# Altium footprint library analog-devices.PCBLIB: 79 footprints (part 3 of 6)
Each footprint in its own frame and in the unit in brackets; x right, y up, seen from the top. Pads: shape width x height; smd on the part's side, far side on the other; paste and mask are expansions set on the pad; w line width, h text height; cw(c..) or ccw(c..) is an arc to the next point about the centre after c.
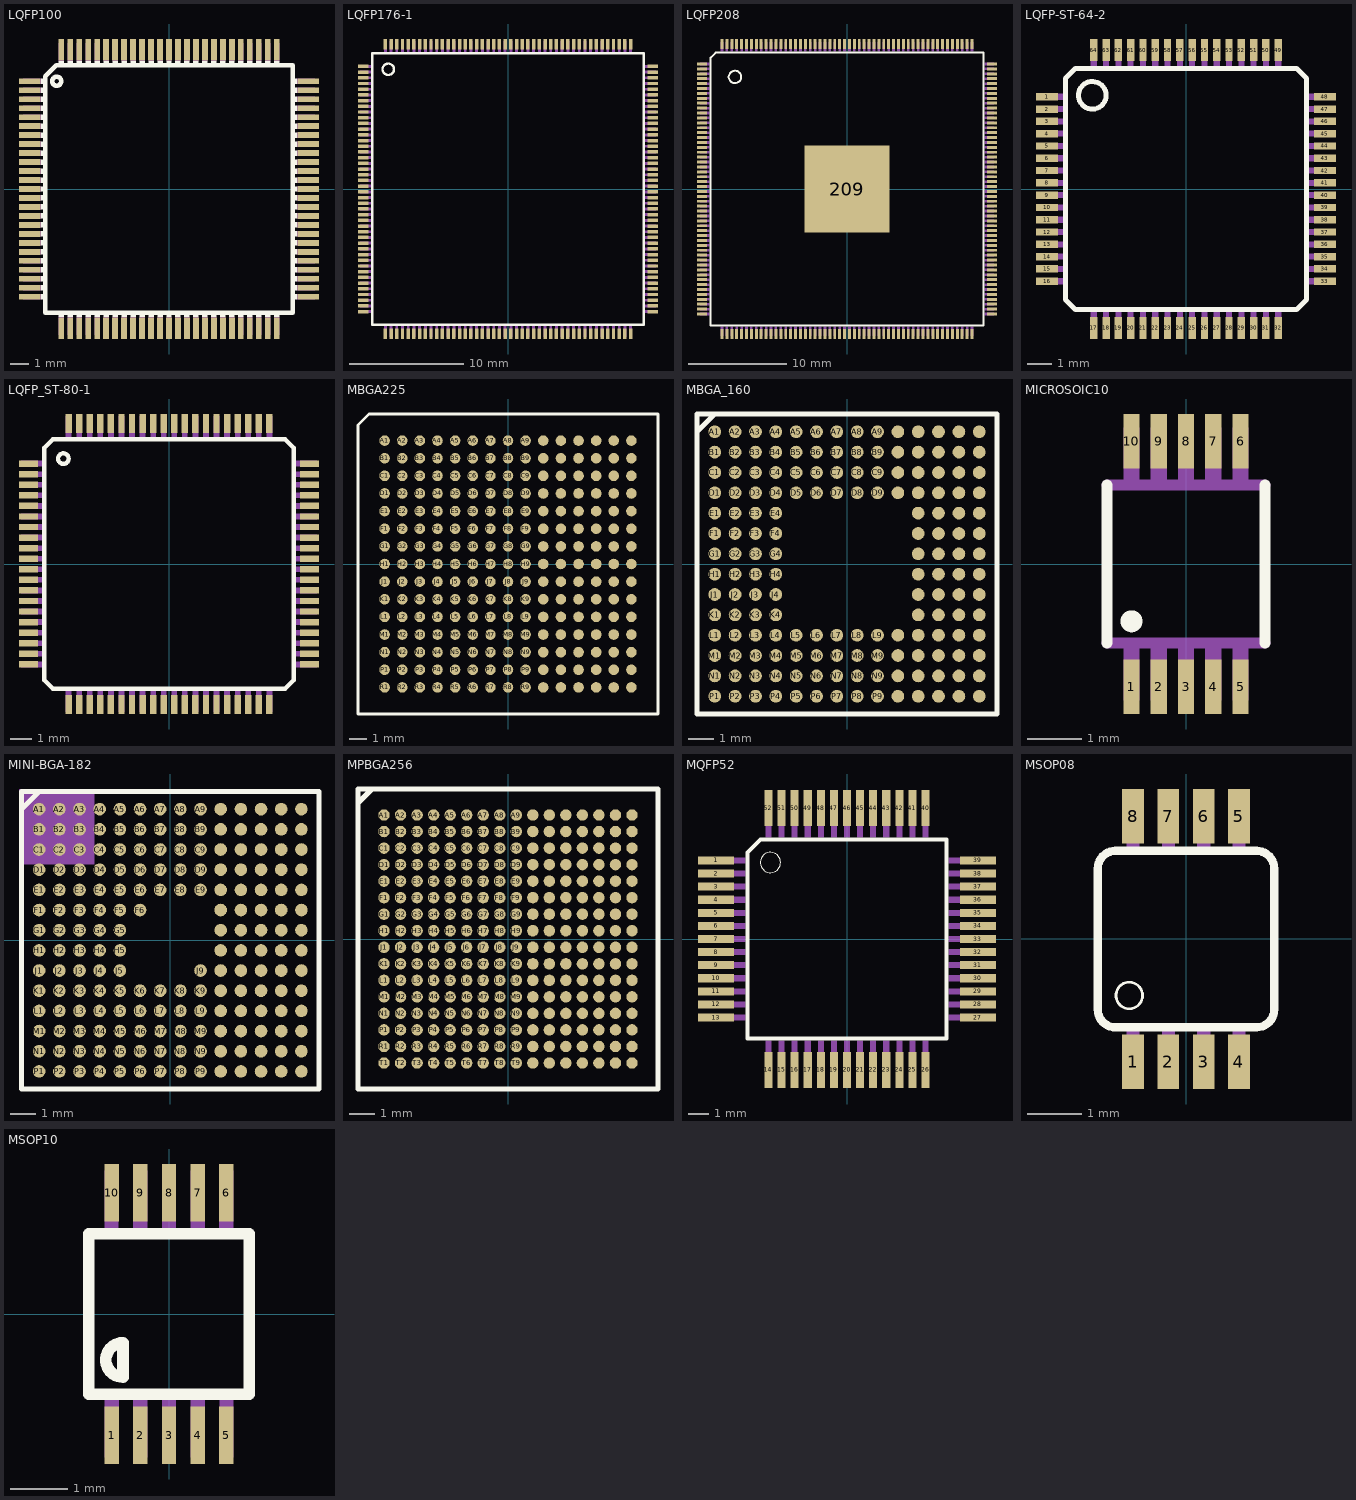
[diagram p2: the footprints below, top view; thin cyan lines are the x and y axes]

## LQFP100 [mm]
pads (100):
  rect 1.2x0.32 smd: 1(-7.75,6) 2(-7.75,5.5) 3(-7.75,5) 4(-7.75,4.5) 5(-7.75,4) 6(-7.75,3.5) 7(-7.75,3) 8(-7.75,2.5) 9(-7.75,2) 10(-7.75,1.5) 11(-7.75,1) 12(-7.75,0.5) 13(-7.75,0) 14(-7.75,-0.5) 15(-7.75,-1) 16(-7.75,-1.5) 17(-7.75,-2) 18(-7.75,-2.5) 19(-7.75,-3) 20(-7.75,-3.5) 21(-7.75,-4) 22(-7.75,-4.5) 23(-7.75,-5) 24(-7.75,-5.5) 25(-7.75,-6) 51(7.75,-6) 52(7.75,-5.5) 53(7.75,-5) 54(7.75,-4.5) 55(7.75,-4) 56(7.75,-3.5) 57(7.75,-3) 58(7.75,-2.5) 59(7.75,-2) 60(7.75,-1.5) 61(7.75,-1) 62(7.75,-0.5) 63(7.75,0) 64(7.75,0.5) 65(7.75,1) 66(7.75,1.5) 67(7.75,2) 68(7.75,2.5) 69(7.75,3) 70(7.75,3.5) 71(7.75,4) 72(7.75,4.5) 73(7.75,5) 74(7.75,5.5) 75(7.75,6)
  rect 0.32x1.2 smd: 26(-6,-7.75) 27(-5.5,-7.75) 28(-5,-7.75) 29(-4.5,-7.75) 30(-4,-7.75) 31(-3.5,-7.75) 32(-3,-7.75) 33(-2.5,-7.75) 34(-2,-7.75) 35(-1.5,-7.75) 36(-1,-7.75) 37(-0.5,-7.75) 38(0,-7.75) 39(0.5,-7.75) 40(1,-7.75) 41(1.5,-7.75) 42(2,-7.75) 43(2.5,-7.75) 44(3,-7.75) 45(3.5,-7.75) 46(4,-7.75) 47(4.5,-7.75) 48(5,-7.75) 49(5.5,-7.75) 50(6,-7.75) 76(6,7.75) 77(5.5,7.75) 78(5,7.75) 79(4.5,7.75) 80(4,7.75) 81(3.5,7.75) 82(3,7.75) 83(2.5,7.75) 84(2,7.75) 85(1.5,7.75) 86(1,7.75) 87(0.5,7.75) 88(0,7.75) 89(-0.5,7.75) 90(-1,7.75) 91(-1.5,7.75) 92(-2,7.75) 93(-2.5,7.75) 94(-3,7.75) 95(-3.5,7.75) 96(-4,7.75) 97(-4.5,7.75) 98(-5,7.75) 99(-5.5,7.75) 100(-6,7.75)
Top Overlay:
  circle w0.254: c-6.25,6 r0.25
  rectangle: -7.115,5.848 -6.861,6.152
  rectangle: -7.115,5.348 -6.861,5.653
  rectangle: -7.115,4.848 -6.861,5.152
  rectangle: -7.115,4.348 -6.861,4.653
  rectangle: -7.115,3.848 -6.861,4.152
  rectangle: -7.115,3.348 -6.861,3.653
  rectangle: -7.115,2.848 -6.861,3.152
  rectangle: -7.115,2.348 -6.861,2.653
  rectangle: -7.115,1.848 -6.861,2.152
  rectangle: -7.115,1.348 -6.861,1.653
  rectangle: -7.115,0.848 -6.861,1.152
  rectangle: -7.115,0.348 -6.861,0.653
  rectangle: -7.115,-0.152 -6.861,0.152
  rectangle: -7.115,-0.653 -6.861,-0.348
  rectangle: -7.115,-1.152 -6.861,-0.848
  rectangle: -7.115,-1.653 -6.861,-1.348
  rectangle: -7.115,-2.152 -6.861,-1.848
  rectangle: -7.115,-2.653 -6.861,-2.348
  rectangle: -7.115,-3.152 -6.861,-2.848
  rectangle: -7.115,-3.653 -6.861,-3.348
  rectangle: -7.115,-4.152 -6.861,-3.848
  rectangle: -7.115,-4.653 -6.861,-4.348
  rectangle: -7.115,-5.152 -6.861,-4.848
  rectangle: -7.115,-5.653 -6.861,-5.348
  rectangle: -7.115,-6.152 -6.861,-5.848
  rectangle: -6.152,-7.115 -5.848,-6.861
  rectangle: -5.653,-7.115 -5.348,-6.861
  rectangle: -5.152,-7.115 -4.848,-6.861
  rectangle: -4.653,-7.115 -4.348,-6.861
  rectangle: -4.152,-7.115 -3.848,-6.861
  rectangle: -3.653,-7.115 -3.348,-6.861
  rectangle: -3.152,-7.115 -2.848,-6.861
  rectangle: -2.653,-7.115 -2.348,-6.861
  rectangle: -2.152,-7.115 -1.848,-6.861
  rectangle: -1.653,-7.115 -1.348,-6.861
  rectangle: -1.152,-7.115 -0.848,-6.861
  rectangle: -0.653,-7.115 -0.348,-6.861
  rectangle: -0.152,-7.115 0.152,-6.861
  rectangle: 0.348,-7.115 0.653,-6.861
  rectangle: 0.848,-7.115 1.152,-6.861
  rectangle: 1.348,-7.115 1.653,-6.861
  rectangle: 1.848,-7.115 2.152,-6.861
  rectangle: 2.348,-7.115 2.653,-6.861
  rectangle: 2.848,-7.115 3.152,-6.861
  rectangle: 3.348,-7.115 3.653,-6.861
  rectangle: 3.848,-7.115 4.152,-6.861
  rectangle: 4.348,-7.115 4.653,-6.861
  rectangle: 4.848,-7.115 5.152,-6.861
  rectangle: 5.348,-7.115 5.653,-6.861
  rectangle: 5.848,-7.115 6.152,-6.861
  rectangle: 6.861,-6.152 7.115,-5.848
  rectangle: 6.861,-5.653 7.115,-5.348
  rectangle: 6.861,-5.152 7.115,-4.848
  rectangle: 6.861,-4.653 7.115,-4.348
  rectangle: 6.861,-4.152 7.115,-3.848
  rectangle: 6.861,-3.653 7.115,-3.348
  rectangle: 6.861,-3.152 7.115,-2.848
  rectangle: 6.861,-2.653 7.115,-2.348
  rectangle: 6.861,-2.152 7.115,-1.848
  rectangle: 6.861,-1.653 7.115,-1.348
  rectangle: 6.861,-1.152 7.115,-0.848
  rectangle: 6.861,-0.653 7.115,-0.348
  rectangle: 6.861,-0.152 7.115,0.152
  rectangle: 6.861,0.348 7.115,0.653
  rectangle: 6.861,0.848 7.115,1.152
  rectangle: 6.861,1.348 7.115,1.653
  rectangle: 6.861,1.848 7.115,2.152
  rectangle: 6.861,2.348 7.115,2.653
  rectangle: 6.861,2.848 7.115,3.152
  rectangle: 6.861,3.348 7.115,3.653
  rectangle: 6.861,3.848 7.115,4.152
  rectangle: 6.861,4.348 7.115,4.653
  rectangle: 6.861,4.848 7.115,5.152
  rectangle: 6.861,5.348 7.115,5.653
  rectangle: 6.861,5.848 7.115,6.152
  rectangle: 5.848,6.861 6.152,7.115
  rectangle: 5.348,6.861 5.653,7.115
  rectangle: 4.848,6.861 5.152,7.115
  rectangle: 4.348,6.861 4.653,7.115
  rectangle: 3.848,6.861 4.152,7.115
  rectangle: 3.348,6.861 3.653,7.115
  rectangle: 2.848,6.861 3.152,7.115
  rectangle: 2.348,6.861 2.653,7.115
  rectangle: 1.848,6.861 2.152,7.115
  rectangle: 1.348,6.861 1.653,7.115
  rectangle: 0.848,6.861 1.152,7.115
  rectangle: 0.348,6.861 0.653,7.115
  rectangle: -0.152,6.861 0.152,7.115
  rectangle: -0.653,6.861 -0.348,7.115
  rectangle: -1.152,6.861 -0.848,7.115
  rectangle: -1.653,6.861 -1.348,7.115
  rectangle: -2.152,6.861 -1.848,7.115
  rectangle: -2.653,6.861 -2.348,7.115
  rectangle: -3.152,6.861 -2.848,7.115
  rectangle: -3.653,6.861 -3.348,7.115
  rectangle: -4.152,6.861 -3.848,7.115
  rectangle: -4.653,6.861 -4.348,7.115
  rectangle: -5.152,6.861 -4.848,7.115
  rectangle: -5.653,6.861 -5.348,7.115
  rectangle: -6.152,6.861 -5.848,7.115
  lines w0.254: -6.883,-6.883 6.883,-6.883 6.883,6.883 -6.274,6.883 -6.883,6.274 -6.883,-6.883
Mechanical 16:
  rectangle: -8.131,5.848 -7.09,6.152
  rectangle: -8.131,5.348 -7.09,5.653
  rectangle: -8.131,4.848 -7.09,5.152
  rectangle: -8.131,4.348 -7.09,4.653
  rectangle: -8.131,3.848 -7.09,4.152
  rectangle: -8.131,3.348 -7.09,3.653
  rectangle: -8.131,2.848 -7.09,3.152
  rectangle: -8.131,2.348 -7.09,2.653
  rectangle: -8.131,1.848 -7.09,2.152
  rectangle: -8.131,1.348 -7.09,1.653
  rectangle: -8.131,0.848 -7.09,1.152
  rectangle: -8.131,0.348 -7.09,0.653
  rectangle: -8.131,-0.152 -7.09,0.152
  rectangle: -8.131,-0.653 -7.09,-0.348
  rectangle: -8.131,-1.152 -7.09,-0.848
  rectangle: -8.131,-1.653 -7.09,-1.348
  rectangle: -8.131,-2.152 -7.09,-1.848
  rectangle: -8.131,-2.653 -7.09,-2.348
  rectangle: -8.131,-3.152 -7.09,-2.848
  rectangle: -8.131,-3.653 -7.09,-3.348
  rectangle: -8.131,-4.152 -7.09,-3.848
  rectangle: -8.131,-4.653 -7.09,-4.348
  rectangle: -8.131,-5.152 -7.09,-4.848
  rectangle: -8.131,-5.653 -7.09,-5.348
  rectangle: -8.131,-6.152 -7.09,-5.848
  rectangle: -6.152,-8.131 -5.848,-7.09
  rectangle: -5.653,-8.131 -5.348,-7.09
  rectangle: -5.152,-8.131 -4.848,-7.09
  rectangle: -4.653,-8.131 -4.348,-7.09
  rectangle: -4.152,-8.131 -3.848,-7.09
  rectangle: -3.653,-8.131 -3.348,-7.09
  rectangle: -3.152,-8.131 -2.848,-7.09
  rectangle: -2.653,-8.131 -2.348,-7.09
  rectangle: -2.152,-8.131 -1.848,-7.09
  rectangle: -1.653,-8.131 -1.348,-7.09
  rectangle: -1.152,-8.131 -0.848,-7.09
  rectangle: -0.653,-8.131 -0.348,-7.09
  rectangle: -0.152,-8.131 0.152,-7.09
  rectangle: 0.348,-8.131 0.653,-7.09
  rectangle: 0.848,-8.131 1.152,-7.09
  rectangle: 1.348,-8.131 1.653,-7.09
  rectangle: 1.848,-8.131 2.152,-7.09
  rectangle: 2.348,-8.131 2.653,-7.09
  rectangle: 2.848,-8.131 3.152,-7.09
  rectangle: 3.348,-8.131 3.653,-7.09
  rectangle: 3.848,-8.131 4.152,-7.09
  rectangle: 4.348,-8.131 4.653,-7.09
  rectangle: 4.848,-8.131 5.152,-7.09
  rectangle: 5.348,-8.131 5.653,-7.09
  rectangle: 5.848,-8.131 6.152,-7.09
  rectangle: 7.09,-6.152 8.131,-5.848
  rectangle: 7.09,-5.653 8.131,-5.348
  rectangle: 7.09,-5.152 8.131,-4.848
  rectangle: 7.09,-4.653 8.131,-4.348
  rectangle: 7.09,-4.152 8.131,-3.848
  rectangle: 7.09,-3.653 8.131,-3.348
  rectangle: 7.09,-3.152 8.131,-2.848
  rectangle: 7.09,-2.653 8.131,-2.348
  rectangle: 7.09,-2.152 8.131,-1.848
  rectangle: 7.09,-1.653 8.131,-1.348
  rectangle: 7.09,-1.152 8.131,-0.848
  rectangle: 7.09,-0.653 8.131,-0.348
  rectangle: 7.09,-0.152 8.131,0.152
  rectangle: 7.09,0.348 8.131,0.653
  rectangle: 7.09,0.848 8.131,1.152
  rectangle: 7.09,1.348 8.131,1.653
  rectangle: 7.09,1.848 8.131,2.152
  rectangle: 7.09,2.348 8.131,2.653
  rectangle: 7.09,2.848 8.131,3.152
  rectangle: 7.09,3.348 8.131,3.653
  rectangle: 7.09,3.848 8.131,4.152
  rectangle: 7.09,4.348 8.131,4.653
  rectangle: 7.09,4.848 8.131,5.152
  rectangle: 7.09,5.348 8.131,5.653
  rectangle: 7.09,5.848 8.131,6.152
  rectangle: 5.848,7.09 6.152,8.131
  rectangle: 5.348,7.09 5.653,8.131
  rectangle: 4.848,7.09 5.152,8.131
  rectangle: 4.348,7.09 4.653,8.131
  rectangle: 3.848,7.09 4.152,8.131
  rectangle: 3.348,7.09 3.653,8.131
  rectangle: 2.848,7.09 3.152,8.131
  rectangle: 2.348,7.09 2.653,8.131
  rectangle: 1.848,7.09 2.152,8.131
  rectangle: 1.348,7.09 1.653,8.131
  rectangle: 0.848,7.09 1.152,8.131
  rectangle: 0.348,7.09 0.653,8.131
  rectangle: -0.152,7.09 0.152,8.131
  rectangle: -0.653,7.09 -0.348,8.131
  rectangle: -1.152,7.09 -0.848,8.131
  rectangle: -1.653,7.09 -1.348,8.131
  rectangle: -2.152,7.09 -1.848,8.131
  rectangle: -2.653,7.09 -2.348,8.131
  rectangle: -3.152,7.09 -2.848,8.131
  rectangle: -3.653,7.09 -3.348,8.131
  rectangle: -4.152,7.09 -3.848,8.131
  rectangle: -4.653,7.09 -4.348,8.131
  rectangle: -5.152,7.09 -4.848,8.131
  rectangle: -5.653,7.09 -5.348,8.131
  rectangle: -6.152,7.09 -5.848,8.131

## LQFP176-1 [mm]
pads (176):
  rect 0.9x0.3 smd: 1(-12.7,10.75) 2(-12.7,10.25) 3(-12.7,9.75) 4(-12.7,9.25) 5(-12.7,8.75) 6(-12.7,8.25) 7(-12.7,7.75) 8(-12.7,7.25) 9(-12.7,6.75) 10(-12.7,6.25) 11(-12.7,5.75) 12(-12.7,5.25) 13(-12.7,4.75) 14(-12.7,4.25) 15(-12.7,3.75) 16(-12.7,3.25) 17(-12.7,2.75) 18(-12.7,2.25) 19(-12.7,1.75) 20(-12.7,1.25) 21(-12.7,0.75) 22(-12.7,0.25) 23(-12.7,-0.25) 24(-12.7,-0.75) 25(-12.7,-1.25) 26(-12.7,-1.75) 27(-12.7,-2.25) 28(-12.7,-2.75) 29(-12.7,-3.25) 30(-12.7,-3.75) 31(-12.7,-4.25) 32(-12.7,-4.75) 33(-12.7,-5.25) 34(-12.7,-5.75) 35(-12.7,-6.25) 36(-12.7,-6.75) 37(-12.7,-7.25) 38(-12.7,-7.75) 39(-12.7,-8.25) 40(-12.7,-8.75) 41(-12.7,-9.25) 42(-12.7,-9.75) 43(-12.7,-10.25) 44(-12.7,-10.75) 89(12.7,-10.75) 90(12.7,-10.25) 91(12.7,-9.75) 92(12.7,-9.25) 93(12.7,-8.75) 94(12.7,-8.25) 95(12.7,-7.75) 96(12.7,-7.25) 97(12.7,-6.75) 98(12.7,-6.25) 99(12.7,-5.75) 100(12.7,-5.25) 101(12.7,-4.75) 102(12.7,-4.25) 103(12.7,-3.75) 104(12.7,-3.25) 105(12.7,-2.75) 106(12.7,-2.25) 107(12.7,-1.75) 108(12.7,-1.25) 109(12.7,-0.75) 110(12.7,-0.25) 111(12.7,0.25) 112(12.7,0.75) 113(12.7,1.25) 114(12.7,1.75) 115(12.7,2.25) 116(12.7,2.75) 117(12.7,3.25) 118(12.7,3.75) 119(12.7,4.25) 120(12.7,4.75) 121(12.7,5.25) 122(12.7,5.75) 123(12.7,6.25) 124(12.7,6.75) 125(12.7,7.25) 126(12.7,7.75) 127(12.7,8.25) 128(12.7,8.75) 129(12.7,9.25) 130(12.7,9.75) 131(12.7,10.25) 132(12.7,10.75)
  rect 0.3x0.9 smd: 45(-10.75,-12.7) 46(-10.25,-12.7) 47(-9.75,-12.7) 48(-9.25,-12.7) 49(-8.75,-12.7) 50(-8.25,-12.7) 51(-7.75,-12.7) 52(-7.25,-12.7) 53(-6.75,-12.7) 54(-6.25,-12.7) 55(-5.75,-12.7) 56(-5.25,-12.7) 57(-4.75,-12.7) 58(-4.25,-12.7) 59(-3.75,-12.7) 60(-3.25,-12.7) 61(-2.75,-12.7) 62(-2.25,-12.7) 63(-1.75,-12.7) 64(-1.25,-12.7) 65(-0.75,-12.7) 66(-0.25,-12.7) 67(0.25,-12.7) 68(0.75,-12.7) 69(1.25,-12.7) 70(1.75,-12.7) 71(2.25,-12.7) 72(2.75,-12.7) 73(3.25,-12.7) 74(3.75,-12.7) 75(4.25,-12.7) 76(4.75,-12.7) 77(5.25,-12.7) 78(5.75,-12.7) 79(6.25,-12.7) 80(6.75,-12.7) 81(7.25,-12.7) 82(7.75,-12.7) 83(8.25,-12.7) 84(8.75,-12.7) 85(9.25,-12.7) 86(9.75,-12.7) 87(10.25,-12.7) 88(10.75,-12.7) 133(10.75,12.7) 134(10.25,12.7) 135(9.75,12.7) 136(9.25,12.7) 137(8.75,12.7) 138(8.25,12.7) 139(7.75,12.7) 140(7.25,12.7) 141(6.75,12.7) 142(6.25,12.7) 143(5.75,12.7) 144(5.25,12.7) 145(4.75,12.7) 146(4.25,12.7) 147(3.75,12.7) 148(3.25,12.7) 149(2.75,12.7) 150(2.25,12.7) 151(1.75,12.7) 152(1.25,12.7) 153(0.75,12.7) 154(0.25,12.7) 155(-0.25,12.7) 156(-0.75,12.7) 157(-1.25,12.7) 158(-1.75,12.7) 159(-2.25,12.7) 160(-2.75,12.7) 161(-3.25,12.7) 162(-3.75,12.7) 163(-4.25,12.7) 164(-4.75,12.7) 165(-5.25,12.7) 166(-5.75,12.7) 167(-6.25,12.7) 168(-6.75,12.7) 169(-7.25,12.7) 170(-7.75,12.7) 171(-8.25,12.7) 172(-8.75,12.7) 173(-9.25,12.7) 174(-9.75,12.7) 175(-10.25,12.7) 176(-10.75,12.7)
Top Overlay:
  circle w0.203: c-10.5,10.5 r0.5
  lines w0.203: -11.9,-11.9 11.9,-11.9 11.9,11.9 -11.9,11.9 -11.9,-11.9
Top Paste:
  drawing of 176 lines, arcs and shapes, not listed
Top Solder:
  drawing of 176 lines, arcs and shapes, not listed
Mechanical 16:
  drawing of 176 lines, arcs and shapes, not listed

## LQFP208 [mm]
pads (209):
  rect 1x0.3 smd: 1(-14.8,12.75) 2(-14.8,12.25) 3(-14.8,11.75) 4(-14.8,11.25) 5(-14.8,10.75) 6(-14.8,10.25) 7(-14.8,9.75) 8(-14.8,9.25) 9(-14.8,8.75) 10(-14.8,8.25) 11(-14.8,7.75) 12(-14.8,7.25) 13(-14.8,6.75) 14(-14.8,6.25) 15(-14.8,5.75) 16(-14.8,5.25) 17(-14.8,4.75) 18(-14.8,4.25) 19(-14.8,3.75) 20(-14.8,3.25) 21(-14.8,2.75) 22(-14.8,2.25) 23(-14.8,1.75) 24(-14.8,1.25) 25(-14.8,0.75) 26(-14.8,0.25) 27(-14.8,-0.25) 28(-14.8,-0.75) 29(-14.8,-1.25) 30(-14.8,-1.75) 31(-14.8,-2.25) 32(-14.8,-2.75) 33(-14.8,-3.25) 34(-14.8,-3.75) 35(-14.8,-4.25) 36(-14.8,-4.75) 37(-14.8,-5.25) 38(-14.8,-5.75) 39(-14.8,-6.25) 40(-14.8,-6.75) 41(-14.8,-7.25) 42(-14.8,-7.75) 43(-14.8,-8.25) 44(-14.8,-8.75) 45(-14.8,-9.25) 46(-14.8,-9.75) 47(-14.8,-10.25) 48(-14.8,-10.75) 49(-14.8,-11.25) 50(-14.8,-11.75) 51(-14.8,-12.25) 52(-14.8,-12.75) 105(14.8,-12.75) 106(14.8,-12.25) 107(14.8,-11.75) 108(14.8,-11.25) 109(14.8,-10.75) 110(14.8,-10.25) 111(14.8,-9.75) 112(14.8,-9.25) 113(14.8,-8.75) 114(14.8,-8.25) 115(14.8,-7.75) 116(14.8,-7.25) 117(14.8,-6.75) 118(14.8,-6.25) 119(14.8,-5.75) 120(14.8,-5.25) 121(14.8,-4.75) 122(14.8,-4.25) 123(14.8,-3.75) 124(14.8,-3.25) 125(14.8,-2.75) 126(14.8,-2.25) 127(14.8,-1.75) 128(14.8,-1.25) 129(14.8,-0.75) 130(14.8,-0.25) 131(14.8,0.25) 132(14.8,0.75) 133(14.8,1.25) 134(14.8,1.75) 135(14.8,2.25) 136(14.8,2.75) 137(14.8,3.25) 138(14.8,3.75) 139(14.8,4.25) 140(14.8,4.75) 141(14.8,5.25) 142(14.8,5.75) 143(14.8,6.25) 144(14.8,6.75) 145(14.8,7.25) 146(14.8,7.75) 147(14.8,8.25) 148(14.8,8.75) 149(14.8,9.25) 150(14.8,9.75) 151(14.8,10.25) 152(14.8,10.75) 153(14.8,11.25) 154(14.8,11.75) 155(14.8,12.25) 156(14.8,12.75)
  rect 0.3x1 smd: 53(-12.75,-14.8) 54(-12.25,-14.8) 55(-11.75,-14.8) 56(-11.25,-14.8) 57(-10.75,-14.8) 58(-10.25,-14.8) 59(-9.75,-14.8) 60(-9.25,-14.8) 61(-8.75,-14.8) 62(-8.25,-14.8) 63(-7.75,-14.8) 64(-7.25,-14.8) 65(-6.75,-14.8) 66(-6.25,-14.8) 67(-5.75,-14.8) 68(-5.25,-14.8) 69(-4.75,-14.8) 70(-4.25,-14.8) 71(-3.75,-14.8) 72(-3.25,-14.8) 73(-2.75,-14.8) 74(-2.25,-14.8) 75(-1.75,-14.8) 76(-1.25,-14.8) 77(-0.75,-14.8) 78(-0.25,-14.8) 79(0.25,-14.8) 80(0.75,-14.8) 81(1.25,-14.8) 82(1.75,-14.8) 83(2.25,-14.8) 84(2.75,-14.8) 85(3.25,-14.8) 86(3.75,-14.8) 87(4.25,-14.8) 88(4.75,-14.8) 89(5.25,-14.8) 90(5.75,-14.8) 91(6.25,-14.8) 92(6.75,-14.8) 93(7.25,-14.8) 94(7.75,-14.8) 95(8.25,-14.8) 96(8.75,-14.8) 97(9.25,-14.8) 98(9.75,-14.8) 99(10.25,-14.8) 100(10.75,-14.8) 101(11.25,-14.8) 102(11.75,-14.8) 103(12.25,-14.8) 104(12.75,-14.8) 157(12.75,14.8) 158(12.25,14.8) 159(11.75,14.8) 160(11.25,14.8) 161(10.75,14.8) 162(10.25,14.8) 163(9.75,14.8) 164(9.25,14.8) 165(8.75,14.8) 166(8.25,14.8) 167(7.75,14.8) 168(7.25,14.8) 169(6.75,14.8) 170(6.25,14.8) 171(5.75,14.8) 172(5.25,14.8) 173(4.75,14.8) 174(4.25,14.8) 175(3.75,14.8) 176(3.25,14.8) 177(2.75,14.8) 178(2.25,14.8) 179(1.75,14.8) 180(1.25,14.8) 181(0.75,14.8) 182(0.25,14.8) 183(-0.25,14.8) 184(-0.75,14.8) 185(-1.25,14.8) 186(-1.75,14.8) 187(-2.25,14.8) 188(-2.75,14.8) 189(-3.25,14.8) 190(-3.75,14.8) 191(-4.25,14.8) 192(-4.75,14.8) 193(-5.25,14.8) 194(-5.75,14.8) 195(-6.25,14.8) 196(-6.75,14.8) 197(-7.25,14.8) 198(-7.75,14.8) 199(-8.25,14.8) 200(-8.75,14.8) 201(-9.25,14.8) 202(-9.75,14.8) 203(-10.25,14.8) 204(-10.75,14.8) 205(-11.25,14.8) 206(-11.75,14.8) 207(-12.25,14.8) 208(-12.75,14.8)
  rect 8.712x8.89 smd: 209(0,0)
Top Overlay:
  circle w0.203: c-11.43,11.43 r0.635
  lines w0.203: -13.898,-13.898 13.898,-13.898 13.898,13.898 -13.4,13.898 -13.898,13.4 -13.898,-13.898
Mechanical 16:
  drawing of 208 lines, arcs and shapes, not listed

## LQFP-ST-64-2 [mm]
pads (64):
  rect 0.9x0.3 smd: 1(-5.65,3.75) 2(-5.65,3.25) 3(-5.65,2.75) 4(-5.65,2.25) 5(-5.65,1.75) 6(-5.65,1.25) 7(-5.65,0.75) 8(-5.65,0.25) 9(-5.65,-0.25) 10(-5.65,-0.75) 11(-5.65,-1.25) 12(-5.65,-1.75) 13(-5.65,-2.25) 14(-5.65,-2.75) 15(-5.65,-3.25) 16(-5.65,-3.75) 33(5.65,-3.75) 34(5.65,-3.25) 35(5.65,-2.75) 36(5.65,-2.25) 37(5.65,-1.75) 38(5.65,-1.25) 39(5.65,-0.75) 40(5.65,-0.25) 41(5.65,0.25) 42(5.65,0.75) 43(5.65,1.25) 44(5.65,1.75) 45(5.65,2.25) 46(5.65,2.75) 47(5.65,3.25) 48(5.65,3.75)
  rect 0.3x0.9 smd: 17(-3.75,-5.65) 18(-3.25,-5.65) 19(-2.75,-5.65) 20(-2.25,-5.65) 21(-1.75,-5.65) 22(-1.25,-5.65) 23(-0.75,-5.65) 24(-0.25,-5.65) 25(0.25,-5.65) 26(0.75,-5.65) 27(1.25,-5.65) 28(1.75,-5.65) 29(2.25,-5.65) 30(2.75,-5.65) 31(3.25,-5.65) 32(3.75,-5.65) 49(3.75,5.65) 50(3.25,5.65) 51(2.75,5.65) 52(2.25,5.65) 53(1.75,5.65) 54(1.25,5.65) 55(0.75,5.65) 56(0.25,5.65) 57(-0.25,5.65) 58(-0.75,5.65) 59(-1.25,5.65) 60(-1.75,5.65) 61(-2.25,5.65) 62(-2.75,5.65) 63(-3.25,5.65) 64(-3.75,5.65)
Top Overlay:
  circle w0.203: c-3.81,3.81 r0.563
  lines w0.203: -4.9,-4.5 -4.5,-4.9 4.5,-4.9 4.9,-4.5 4.9,4.5 4.5,4.9 -4.5,4.9 -4.9,4.5 -4.9,-4.5
Mechanical 16:
  rectangle: -6,3.625 -5,3.875
  rectangle: -6,3.125 -5,3.375
  rectangle: -6,2.625 -5,2.875
  rectangle: -6,2.125 -5,2.375
  rectangle: -6,1.625 -5,1.875
  rectangle: -6,1.125 -5,1.375
  rectangle: -6,0.625 -5,0.875
  rectangle: -6,0.125 -5,0.375
  rectangle: -6,-0.375 -5,-0.125
  rectangle: -6,-0.875 -5,-0.625
  rectangle: -6,-1.375 -5,-1.125
  rectangle: -6,-1.875 -5,-1.625
  rectangle: -6,-2.375 -5,-2.125
  rectangle: -6,-2.875 -5,-2.625
  rectangle: -6,-3.375 -5,-3.125
  rectangle: -6,-3.875 -5,-3.625
  region: -3.625,-6 -3.625,-5 -3.875,-5 -3.875,-6
  region: -3.125,-6 -3.125,-5 -3.375,-5 -3.375,-6
  region: -2.625,-6 -2.625,-5 -2.875,-5 -2.875,-6
  region: -2.125,-6 -2.125,-5 -2.375,-5 -2.375,-6
  region: -1.625,-6 -1.625,-5 -1.875,-5 -1.875,-6
  region: -1.125,-6 -1.125,-5 -1.375,-5 -1.375,-6
  region: -0.625,-6 -0.625,-5 -0.875,-5 -0.875,-6
  region: -0.125,-6 -0.125,-5 -0.375,-5 -0.375,-6
  region: 0.375,-6 0.375,-5 0.125,-5 0.125,-6
  region: 0.875,-6 0.875,-5 0.625,-5 0.625,-6
  region: 1.375,-6 1.375,-5 1.125,-5 1.125,-6
  region: 1.875,-6 1.875,-5 1.625,-5 1.625,-6
  region: 2.375,-6 2.375,-5 2.125,-5 2.125,-6
  region: 2.875,-6 2.875,-5 2.625,-5 2.625,-6
  region: 3.375,-6 3.375,-5 3.125,-5 3.125,-6
  region: 3.875,-6 3.875,-5 3.625,-5 3.625,-6
  region: 6,-3.625 5,-3.625 5,-3.875 6,-3.875
  region: 6,-3.125 5,-3.125 5,-3.375 6,-3.375
  region: 6,-2.625 5,-2.625 5,-2.875 6,-2.875
  region: 6,-2.125 5,-2.125 5,-2.375 6,-2.375
  region: 6,-1.625 5,-1.625 5,-1.875 6,-1.875
  region: 6,-1.125 5,-1.125 5,-1.375 6,-1.375
  region: 6,-0.625 5,-0.625 5,-0.875 6,-0.875
  region: 6,-0.125 5,-0.125 5,-0.375 6,-0.375
  region: 6,0.375 5,0.375 5,0.125 6,0.125
  region: 6,0.875 5,0.875 5,0.625 6,0.625
  region: 6,1.375 5,1.375 5,1.125 6,1.125
  region: 6,1.875 5,1.875 5,1.625 6,1.625
  region: 6,2.375 5,2.375 5,2.125 6,2.125
  region: 6,2.875 5,2.875 5,2.625 6,2.625
  region: 6,3.375 5,3.375 5,3.125 6,3.125
  region: 6,3.875 5,3.875 5,3.625 6,3.625
  region: 3.625,6 3.625,5 3.875,5 3.875,6
  region: 3.125,6 3.125,5 3.375,5 3.375,6
  region: 2.625,6 2.625,5 2.875,5 2.875,6
  region: 2.125,6 2.125,5 2.375,5 2.375,6
  region: 1.625,6 1.625,5 1.875,5 1.875,6
  region: 1.125,6 1.125,5 1.375,5 1.375,6
  region: 0.625,6 0.625,5 0.875,5 0.875,6
  region: 0.125,6 0.125,5 0.375,5 0.375,6
  region: -0.375,6 -0.375,5 -0.125,5 -0.125,6
  region: -0.875,6 -0.875,5 -0.625,5 -0.625,6
  region: -1.375,6 -1.375,5 -1.125,5 -1.125,6
  region: -1.875,6 -1.875,5 -1.625,5 -1.625,6
  region: -2.375,6 -2.375,5 -2.125,5 -2.125,6
  region: -2.875,6 -2.875,5 -2.625,5 -2.625,6
  region: -3.375,6 -3.375,5 -3.125,5 -3.125,6
  region: -3.875,6 -3.875,5 -3.625,5 -3.625,6

## LQFP_ST-80-1 [mm]
pads (80):
  rect 0.9x0.3 smd: 1(-6.65,4.75) 2(-6.65,4.25) 3(-6.65,3.75) 4(-6.65,3.25) 5(-6.65,2.75) 6(-6.65,2.25) 7(-6.65,1.75) 8(-6.65,1.25) 9(-6.65,0.75) 10(-6.65,0.25) 11(-6.65,-0.25) 12(-6.65,-0.75) 13(-6.65,-1.25) 14(-6.65,-1.75) 15(-6.65,-2.25) 16(-6.65,-2.75) 17(-6.65,-3.25) 18(-6.65,-3.75) 19(-6.65,-4.25) 20(-6.65,-4.75) 41(6.65,-4.75) 42(6.65,-4.25) 43(6.65,-3.75) 44(6.65,-3.25) 45(6.65,-2.75) 46(6.65,-2.25) 47(6.65,-1.75) 48(6.65,-1.25) 49(6.65,-0.75) 50(6.65,-0.25) 51(6.65,0.25) 52(6.65,0.75) 53(6.65,1.25) 54(6.65,1.75) 55(6.65,2.25) 56(6.65,2.75) 57(6.65,3.25) 58(6.65,3.75) 59(6.65,4.25) 60(6.65,4.75)
  rect 0.3x0.9 smd: 21(-4.75,-6.65) 22(-4.25,-6.65) 23(-3.75,-6.65) 24(-3.25,-6.65) 25(-2.75,-6.65) 26(-2.25,-6.65) 27(-1.75,-6.65) 28(-1.25,-6.65) 29(-0.75,-6.65) 30(-0.25,-6.65) 31(0.25,-6.65) 32(0.75,-6.65) 33(1.25,-6.65) 34(1.75,-6.65) 35(2.25,-6.65) 36(2.75,-6.65) 37(3.25,-6.65) 38(3.75,-6.65) 39(4.25,-6.65) 40(4.75,-6.65) 61(4.75,6.65) 62(4.25,6.65) 63(3.75,6.65) 64(3.25,6.65) 65(2.75,6.65) 66(2.25,6.65) 67(1.75,6.65) 68(1.25,6.65) 69(0.75,6.65) 70(0.25,6.65) 71(-0.25,6.65) 72(-0.75,6.65) 73(-1.25,6.65) 74(-1.75,6.65) 75(-2.25,6.65) 76(-2.75,6.65) 77(-3.25,6.65) 78(-3.75,6.65) 79(-4.25,6.65) 80(-4.75,6.65)
Top Overlay:
  circle w0.203: c-5,4.988 r0.25
  lines w0.203: -5.9,-5.5 -5.5,-5.9 5.5,-5.9 5.9,-5.5 5.9,5.5 5.5,5.9 -5.5,5.9 -5.9,5.5 -5.9,-5.5
Mechanical 16:
  rectangle: -7,4.612 -6,4.887
  rectangle: -7,4.113 -6,4.388
  rectangle: -7,3.612 -6,3.887
  rectangle: -7,3.113 -6,3.388
  rectangle: -7,2.612 -6,2.887
  rectangle: -7,2.113 -6,2.388
  rectangle: -7,1.612 -6,1.887
  rectangle: -7,1.113 -6,1.388
  rectangle: -7,0.612 -6,0.887
  rectangle: -7,0.113 -6,0.388
  rectangle: -7,-0.388 -6,-0.113
  rectangle: -7,-0.887 -6,-0.612
  rectangle: -7,-1.388 -6,-1.113
  rectangle: -7,-1.887 -6,-1.612
  rectangle: -7,-2.388 -6,-2.113
  rectangle: -7,-2.887 -6,-2.612
  rectangle: -7,-3.388 -6,-3.113
  rectangle: -7,-3.887 -6,-3.612
  rectangle: -7,-4.388 -6,-4.113
  rectangle: -7,-4.887 -6,-4.612
  region: -4.612,-7 -4.612,-6 -4.887,-6 -4.887,-7
  region: -4.113,-7 -4.113,-6 -4.388,-6 -4.388,-7
  region: -3.612,-7 -3.612,-6 -3.887,-6 -3.887,-7
  region: -3.113,-7 -3.113,-6 -3.388,-6 -3.388,-7
  region: -2.612,-7 -2.612,-6 -2.887,-6 -2.887,-7
  region: -2.113,-7 -2.113,-6 -2.388,-6 -2.388,-7
  region: -1.612,-7 -1.612,-6 -1.887,-6 -1.887,-7
  region: -1.113,-7 -1.113,-6 -1.388,-6 -1.388,-7
  region: -0.612,-7 -0.612,-6 -0.887,-6 -0.887,-7
  region: -0.113,-7 -0.113,-6 -0.388,-6 -0.388,-7
  region: 0.388,-7 0.388,-6 0.113,-6 0.113,-7
  region: 0.887,-7 0.887,-6 0.612,-6 0.612,-7
  region: 1.388,-7 1.388,-6 1.113,-6 1.113,-7
  region: 1.887,-7 1.887,-6 1.612,-6 1.612,-7
  region: 2.388,-7 2.388,-6 2.113,-6 2.113,-7
  region: 2.887,-7 2.887,-6 2.612,-6 2.612,-7
  region: 3.388,-7 3.388,-6 3.113,-6 3.113,-7
  region: 3.887,-7 3.887,-6 3.612,-6 3.612,-7
  region: 4.388,-7 4.388,-6 4.113,-6 4.113,-7
  region: 4.887,-7 4.887,-6 4.612,-6 4.612,-7
  region: 7,-4.612 6,-4.612 6,-4.887 7,-4.887
  region: 7,-4.113 6,-4.113 6,-4.388 7,-4.388
  region: 7,-3.612 6,-3.612 6,-3.887 7,-3.887
  region: 7,-3.113 6,-3.113 6,-3.388 7,-3.388
  region: 7,-2.612 6,-2.612 6,-2.887 7,-2.887
  region: 7,-2.113 6,-2.113 6,-2.388 7,-2.388
  region: 7,-1.612 6,-1.612 6,-1.887 7,-1.887
  region: 7,-1.113 6,-1.113 6,-1.388 7,-1.388
  region: 7,-0.612 6,-0.612 6,-0.887 7,-0.887
  region: 7,-0.113 6,-0.113 6,-0.388 7,-0.388
  region: 7,0.388 6,0.388 6,0.113 7,0.113
  region: 7,0.887 6,0.887 6,0.612 7,0.612
  region: 7,1.388 6,1.388 6,1.113 7,1.113
  region: 7,1.887 6,1.887 6,1.612 7,1.612
  region: 7,2.388 6,2.388 6,2.113 7,2.113
  region: 7,2.887 6,2.887 6,2.612 7,2.612
  region: 7,3.388 6,3.388 6,3.113 7,3.113
  region: 7,3.887 6,3.887 6,3.612 7,3.612
  region: 7,4.388 6,4.388 6,4.113 7,4.113
  region: 7,4.887 6,4.887 6,4.612 7,4.612
  region: 4.612,7 4.612,6 4.887,6 4.887,7
  region: 4.113,7 4.113,6 4.388,6 4.388,7
  region: 3.612,7 3.612,6 3.887,6 3.887,7
  region: 3.113,7 3.113,6 3.388,6 3.388,7
  region: 2.612,7 2.612,6 2.887,6 2.887,7
  region: 2.113,7 2.113,6 2.388,6 2.388,7
  region: 1.612,7 1.612,6 1.887,6 1.887,7
  region: 1.113,7 1.113,6 1.388,6 1.388,7
  region: 0.612,7 0.612,6 0.887,6 0.887,7
  region: 0.113,7 0.113,6 0.388,6 0.388,7
  region: -0.388,7 -0.388,6 -0.113,6 -0.113,7
  region: -0.887,7 -0.887,6 -0.612,6 -0.612,7
  region: -1.388,7 -1.388,6 -1.113,6 -1.113,7
  region: -1.887,7 -1.887,6 -1.612,6 -1.612,7
  region: -2.388,7 -2.388,6 -2.113,6 -2.113,7
  region: -2.887,7 -2.887,6 -2.612,6 -2.612,7
  region: -3.388,7 -3.388,6 -3.113,6 -3.113,7
  region: -3.887,7 -3.887,6 -3.612,6 -3.612,7
  region: -4.388,7 -4.388,6 -4.113,6 -4.113,7
  region: -4.887,7 -4.887,6 -4.612,6 -4.612,7

## MBGA225 [mm]
pads (225):
  rrect100% 0.6x0.6 smd: A1(-7,7) A2(-6,7) A3(-5,7) A4(-4,7) A5(-3,7) A6(-2,7) A7(-1,7) A8(0,7) A9(1,7) A10(2,7) A11(3,7) A12(4,7) A13(5,7) A14(6,7) A15(7,7) B1(-7,6) B2(-6,6) B3(-5,6) B4(-4,6) B5(-3,6) B6(-2,6) B7(-1,6) B8(0,6) B9(1,6) B10(2,6) B11(3,6) B12(4,6) B13(5,6) B14(6,6) B15(7,6) C1(-7,5) C2(-6,5) C3(-5,5) C4(-4,5) C5(-3,5) C6(-2,5) C7(-1,5) C8(0,5) C9(1,5) C10(2,5) C11(3,5) C12(4,5) C13(5,5) C14(6,5) C15(7,5) D1(-7,4) D2(-6,4) D3(-5,4) D4(-4,4) D5(-3,4) D6(-2,4) D7(-1,4) D8(0,4) D9(1,4) D10(2,4) D11(3,4) D12(4,4) D13(5,4) D14(6,4) D15(7,4) E1(-7,3) E2(-6,3) E3(-5,3) E4(-4,3) E5(-3,3) E6(-2,3) E7(-1,3) E8(0,3) E9(1,3) E10(2,3) E11(3,3) E12(4,3) E13(5,3) E14(6,3) E15(7,3) F1(-7,2) F2(-6,2) F3(-5,2) F4(-4,2) F5(-3,2) F6(-2,2) F7(-1,2) F8(0,2) F9(1,2) F10(2,2) F11(3,2) F12(4,2) F13(5,2) F14(6,2) F15(7,2) G1(-7,1) G2(-6,1) G3(-5,1) G4(-4,1) G5(-3,1) G6(-2,1) G7(-1,1) G8(0,1) G9(1,1) G10(2,1) G11(3,1) G12(4,1) G13(5,1) G14(6,1) G15(7,1) H1(-7,0) H2(-6,0) H3(-5,0) H4(-4,0) H5(-3,0) H6(-2,0) H7(-1,0) H8(0,0) H9(1,0) H10(2,0) H11(3,0) H12(4,0) H13(5,0) H14(6,0) H15(7,0) J1(-7,-1) J2(-6,-1) J3(-5,-1) J4(-4,-1) J5(-3,-1) J6(-2,-1) J7(-1,-1) J8(0,-1) J9(1,-1) J10(2,-1) J11(3,-1) J12(4,-1) J13(5,-1) J14(6,-1) J15(7,-1) K1(-7,-2) K2(-6,-2) K3(-5,-2) K4(-4,-2) K5(-3,-2) K6(-2,-2) K7(-1,-2) K8(0,-2) K9(1,-2) K10(2,-2) K11(3,-2) K12(4,-2) K13(5,-2) K14(6,-2) K15(7,-2) L1(-7,-3) L2(-6,-3) L3(-5,-3) L4(-4,-3) L5(-3,-3) L6(-2,-3) L7(-1,-3) L8(0,-3) L9(1,-3) L10(2,-3) L11(3,-3) L12(4,-3) L13(5,-3) L14(6,-3) L15(7,-3) M1(-7,-4) M2(-6,-4) M3(-5,-4) M4(-4,-4) M5(-3,-4) M6(-2,-4) M7(-1,-4) M8(0,-4) M9(1,-4) M10(2,-4) M11(3,-4) M12(4,-4) M13(5,-4) M14(6,-4) M15(7,-4) N1(-7,-5) N2(-6,-5) N3(-5,-5) N4(-4,-5) N5(-3,-5) N6(-2,-5) N7(-1,-5) N8(0,-5) N9(1,-5) N10(2,-5) N11(3,-5) N12(4,-5) N13(5,-5) N14(6,-5) N15(7,-5) P1(-7,-6) P2(-6,-6) P3(-5,-6) P4(-4,-6) P5(-3,-6) P6(-2,-6) P7(-1,-6) P8(0,-6) P9(1,-6) P10(2,-6) P11(3,-6) P12(4,-6) P13(5,-6) P14(6,-6) P15(7,-6) R1(-7,-7) R2(-6,-7) R3(-5,-7) R4(-4,-7) R5(-3,-7) R6(-2,-7) R7(-1,-7) R8(0,-7) R9(1,-7) R10(2,-7) R11(3,-7) R12(4,-7) R13(5,-7) R14(6,-7) R15(7,-7)
Top Overlay:
  lines w0.152: -8.509,-8.509 8.509,-8.509 8.509,8.509 -7.874,8.509 -8.509,7.874 -8.509,-8.509

## MBGA_160 [mm]
pads (160):
  rrect100% 0.5x0.5 smd: A1(-5.2,5.2) A2(-4.4,5.2) A3(-3.6,5.2) A4(-2.8,5.2) A5(-2,5.2) A6(-1.2,5.2) A7(-0.4,5.2) A8(0.4,5.2) A9(1.2,5.2) A10(2,5.2) A11(2.8,5.2) A12(3.6,5.2) A13(4.4,5.2) A14(5.2,5.2) B1(-5.2,4.4) B2(-4.4,4.4) B3(-3.6,4.4) B4(-2.8,4.4) B5(-2,4.4) B6(-1.2,4.4) B7(-0.4,4.4) B8(0.4,4.4) B9(1.2,4.4) B10(2,4.4) B11(2.8,4.4) B12(3.6,4.4) B13(4.4,4.4) B14(5.2,4.4) C1(-5.2,3.6) C2(-4.4,3.6) C3(-3.6,3.6) C4(-2.8,3.6) C5(-2,3.6) C6(-1.2,3.6) C7(-0.4,3.6) C8(0.4,3.6) C9(1.2,3.6) C10(2,3.6) C11(2.8,3.6) C12(3.6,3.6) C13(4.4,3.6) C14(5.2,3.6) D1(-5.2,2.8) D2(-4.4,2.8) D3(-3.6,2.8) D4(-2.8,2.8) D5(-2,2.8) D6(-1.2,2.8) D7(-0.4,2.8) D8(0.4,2.8) D9(1.2,2.8) D10(2,2.8) D11(2.8,2.8) D12(3.6,2.8) D13(4.4,2.8) D14(5.2,2.8) E1(-5.2,2) E2(-4.4,2) E3(-3.6,2) E4(-2.8,2) E11(2.8,2) E12(3.6,2) E13(4.4,2) E14(5.2,2) F1(-5.2,1.2) F2(-4.4,1.2) F3(-3.6,1.2) F4(-2.8,1.2) F11(2.8,1.2) F12(3.6,1.2) F13(4.4,1.2) F14(5.2,1.2) G1(-5.2,0.4) G2(-4.4,0.4) G3(-3.6,0.4) G4(-2.8,0.4) G11(2.8,0.4) G12(3.6,0.4) G13(4.4,0.4) G14(5.2,0.4) H1(-5.2,-0.4) H2(-4.4,-0.4) H3(-3.6,-0.4) H4(-2.8,-0.4) H11(2.8,-0.4) H12(3.6,-0.4) H13(4.4,-0.4) H14(5.2,-0.4) J1(-5.2,-1.2) J2(-4.4,-1.2) J3(-3.6,-1.2) J4(-2.8,-1.2) J11(2.8,-1.2) J12(3.6,-1.2) J13(4.4,-1.2) J14(5.2,-1.2) K1(-5.2,-2) K2(-4.4,-2) K3(-3.6,-2) K4(-2.8,-2) K11(2.8,-2) K12(3.6,-2) K13(4.4,-2) K14(5.2,-2) L1(-5.2,-2.8) L2(-4.4,-2.8) L3(-3.6,-2.8) L4(-2.8,-2.8) L5(-2,-2.8) L6(-1.2,-2.8) L7(-0.4,-2.8) L8(0.4,-2.8) L9(1.2,-2.8) L10(2,-2.8) L11(2.8,-2.8) L12(3.6,-2.8) L13(4.4,-2.8) L14(5.2,-2.8) M1(-5.2,-3.6) M2(-4.4,-3.6) M3(-3.6,-3.6) M4(-2.8,-3.6) M5(-2,-3.6) M6(-1.2,-3.6) M7(-0.4,-3.6) M8(0.4,-3.6) M9(1.2,-3.6) M10(2,-3.6) M11(2.8,-3.6) M12(3.6,-3.6) M13(4.4,-3.6) M14(5.2,-3.6) N1(-5.2,-4.4) N2(-4.4,-4.4) N3(-3.6,-4.4) N4(-2.8,-4.4) N5(-2,-4.4) N6(-1.2,-4.4) N7(-0.4,-4.4) N8(0.4,-4.4) N9(1.2,-4.4) N10(2,-4.4) N11(2.8,-4.4) N12(3.6,-4.4) N13(4.4,-4.4) N14(5.2,-4.4) P1(-5.2,-5.2) P2(-4.4,-5.2) P3(-3.6,-5.2) P4(-2.8,-5.2) P5(-2,-5.2) P6(-1.2,-5.2) P7(-0.4,-5.2) P8(0.4,-5.2) P9(1.2,-5.2) P10(2,-5.2) P11(2.8,-5.2) P12(3.6,-5.2) P13(4.4,-5.2) P14(5.2,-5.2)
Top Overlay:
  lines w0.203: -5.898,5.2 -5.898,5.898 -5.2,5.898 ; -5.898,5.2 -5.898,-5.898 5.898,-5.898 5.898,5.898 -5.2,5.898 ; -5.898,5.2 -5.2,5.898
Top Solder:
  drawing of 160 lines, arcs and shapes, not listed

## MICROSOIC10 [mm]
pads (10):
  rect 0.3x1 smd: 1(-1,-2.25) 2(-0.5,-2.25) 3(0,-2.25) 4(0.5,-2.25) 5(1,-2.25) 6(1,2.25) 7(0.5,2.25) 8(0,2.25) 9(-0.5,2.25) 10(-1,2.25)
Top Overlay:
  circle w0.203: c-1,-1.05 r0.1
  lines w0.203: -1.45,-1.45 -1.45,1.45 ; 1.45,-1.45 1.45,1.45
Mechanical 16:
  rectangle: -1.15,-2.5 -0.85,-1.5
  rectangle: -0.65,-2.5 -0.35,-1.5
  rectangle: -0.15,-2.5 0.15,-1.5
  rectangle: 0.35,-2.5 0.65,-1.5
  rectangle: 0.85,-2.5 1.15,-1.5
  rectangle: 0.85,1.5 1.15,2.5
  rectangle: 0.35,1.5 0.65,2.5
  rectangle: -0.15,1.5 0.15,2.5
  rectangle: -0.65,1.5 -0.35,2.5
  rectangle: -1.15,1.5 -0.85,2.5
  lines w0.203: -1.45,-1.45 1.45,-1.45 ; -1.45,1.45 1.45,1.45

## MINI-BGA-182 [mm]
pads (182):
  rrect100% 0.5x0.5 smd: A1(-5.2,5.2) A2(-4.4,5.2) A3(-3.6,5.2) A4(-2.8,5.2) A5(-2,5.2) A6(-1.2,5.2) A7(-0.4,5.2) A8(0.4,5.2) A9(1.2,5.2) A10(2,5.2) A11(2.8,5.2) A12(3.6,5.2) A13(4.4,5.2) A14(5.2,5.2) B1(-5.2,4.4) B2(-4.4,4.4) B3(-3.6,4.4) B4(-2.8,4.4) B5(-2,4.4) B6(-1.2,4.4) B7(-0.4,4.4) B8(0.4,4.4) B9(1.2,4.4) B10(2,4.4) B11(2.8,4.4) B12(3.6,4.4) B13(4.4,4.4) B14(5.2,4.4) C1(-5.2,3.6) C2(-4.4,3.6) C3(-3.6,3.6) C4(-2.8,3.6) C5(-2,3.6) C6(-1.2,3.6) C7(-0.4,3.6) C8(0.4,3.6) C9(1.2,3.6) C10(2,3.6) C11(2.8,3.6) C12(3.6,3.6) C13(4.4,3.6) C14(5.2,3.6) D1(-5.2,2.8) D2(-4.4,2.8) D3(-3.6,2.8) D4(-2.8,2.8) D5(-2,2.8) D6(-1.2,2.8) D7(-0.4,2.8) D8(0.4,2.8) D9(1.2,2.8) D10(2,2.8) D11(2.8,2.8) D12(3.6,2.8) D13(4.4,2.8) D14(5.2,2.8) E1(-5.2,2) E2(-4.4,2) E3(-3.6,2) E4(-2.8,2) E5(-2,2) E6(-1.2,2) E7(-0.4,2) E8(0.4,2) E9(1.2,2) E10(2,2) E11(2.8,2) E12(3.6,2) E13(4.4,2) E14(5.2,2) F1(-5.2,1.2) F2(-4.4,1.2) F3(-3.6,1.2) F4(-2.8,1.2) F5(-2,1.2) F6(-1.2,1.2) F10(2,1.2) F11(2.8,1.2) F12(3.6,1.2) F13(4.4,1.2) F14(5.2,1.2) G1(-5.2,0.4) G2(-4.4,0.4) G3(-3.6,0.4) G4(-2.8,0.4) G5(-2,0.4) G10(2,0.4) G11(2.8,0.4) G12(3.6,0.4) G13(4.4,0.4) G14(5.2,0.4) H1(-5.2,-0.4) H2(-4.4,-0.4) H3(-3.6,-0.4) H4(-2.8,-0.4) H5(-2,-0.4) H10(2,-0.4) H11(2.8,-0.4) H12(3.6,-0.4) H13(4.4,-0.4) H14(5.2,-0.4) J1(-5.2,-1.2) J2(-4.4,-1.2) J3(-3.6,-1.2) J4(-2.8,-1.2) J5(-2,-1.2) J9(1.2,-1.2) J10(2,-1.2) J11(2.8,-1.2) J12(3.6,-1.2) J13(4.4,-1.2) J14(5.2,-1.2) K1(-5.2,-2) K2(-4.4,-2) K3(-3.6,-2) K4(-2.8,-2) K5(-2,-2) K6(-1.2,-2) K7(-0.4,-2) K8(0.4,-2) K9(1.2,-2) K10(2,-2) K11(2.8,-2) K12(3.6,-2) K13(4.4,-2) K14(5.2,-2) L1(-5.2,-2.8) L2(-4.4,-2.8) L3(-3.6,-2.8) L4(-2.8,-2.8) L5(-2,-2.8) L6(-1.2,-2.8) L7(-0.4,-2.8) L8(0.4,-2.8) L9(1.2,-2.8) L10(2,-2.8) L11(2.8,-2.8) L12(3.6,-2.8) L13(4.4,-2.8) L14(5.2,-2.8) M1(-5.2,-3.6) M2(-4.4,-3.6) M3(-3.6,-3.6) M4(-2.8,-3.6) M5(-2,-3.6) M6(-1.2,-3.6) M7(-0.4,-3.6) M8(0.4,-3.6) M9(1.2,-3.6) M10(2,-3.6) M11(2.8,-3.6) M12(3.6,-3.6) M13(4.4,-3.6) M14(5.2,-3.6) N1(-5.2,-4.4) N2(-4.4,-4.4) N3(-3.6,-4.4) N4(-2.8,-4.4) N5(-2,-4.4) N6(-1.2,-4.4) N7(-0.4,-4.4) N8(0.4,-4.4) N9(1.2,-4.4) N10(2,-4.4) N11(2.8,-4.4) N12(3.6,-4.4) N13(4.4,-4.4) N14(5.2,-4.4) P1(-5.2,-5.2) P2(-4.4,-5.2) P3(-3.6,-5.2) P4(-2.8,-5.2) P5(-2,-5.2) P6(-1.2,-5.2) P7(-0.4,-5.2) P8(0.4,-5.2) P9(1.2,-5.2) P10(2,-5.2) P11(2.8,-5.2) P12(3.6,-5.2) P13(4.4,-5.2) P14(5.2,-5.2)
Top Overlay:
  lines w0.203: -5.898,5.2 -5.898,5.898 -5.2,5.898 ; -5.898,5.2 -5.898,-5.898 5.898,-5.898 5.898,5.898 -5.2,5.898 ; -5.898,5.2 -5.2,5.898
Top Solder:
  drawing of 182 lines, arcs and shapes, not listed
Mechanical 16:
  rectangle: -6,3 -3,6

## MPBGA256 [mm]
pads (256):
  rrect100% 0.45x0.45 smd: A1(-4.875,4.875) A2(-4.225,4.875) A3(-3.575,4.875) A4(-2.925,4.875) A5(-2.275,4.875) A6(-1.625,4.875) A7(-0.975,4.875) A8(-0.325,4.875) A9(0.325,4.875) A10(0.975,4.875) A11(1.625,4.875) A12(2.275,4.875) A13(2.925,4.875) A14(3.575,4.875) A15(4.225,4.875) A16(4.875,4.875) B1(-4.875,4.225) B2(-4.225,4.225) B3(-3.575,4.225) B4(-2.925,4.225) B5(-2.275,4.225) B6(-1.625,4.225) B7(-0.975,4.225) B8(-0.325,4.225) B9(0.325,4.225) B10(0.975,4.225) B11(1.625,4.225) B12(2.275,4.225) B13(2.925,4.225) B14(3.575,4.225) B15(4.225,4.225) B16(4.875,4.225) C1(-4.875,3.575) C2(-4.225,3.575) C3(-3.575,3.575) C4(-2.925,3.575) C5(-2.275,3.575) C6(-1.625,3.575) C7(-0.975,3.575) C8(-0.325,3.575) C9(0.325,3.575) C10(0.975,3.575) C11(1.625,3.575) C12(2.275,3.575) C13(2.925,3.575) C14(3.575,3.575) C15(4.225,3.575) C16(4.875,3.575) D1(-4.875,2.925) D2(-4.225,2.925) D3(-3.575,2.925) D4(-2.925,2.925) D5(-2.275,2.925) D6(-1.625,2.925) D7(-0.975,2.925) D8(-0.325,2.925) D9(0.325,2.925) D10(0.975,2.925) D11(1.625,2.925) D12(2.275,2.925) D13(2.925,2.925) D14(3.575,2.925) D15(4.225,2.925) D16(4.875,2.925) E1(-4.875,2.275) E2(-4.225,2.275) E3(-3.575,2.275) E4(-2.925,2.275) E5(-2.275,2.275) E6(-1.625,2.275) E7(-0.975,2.275) E8(-0.325,2.275) E9(0.325,2.275) E10(0.975,2.275) E11(1.625,2.275) E12(2.275,2.275) E13(2.925,2.275) E14(3.575,2.275) E15(4.225,2.275) E16(4.875,2.275) F1(-4.875,1.625) F2(-4.225,1.625) F3(-3.575,1.625) F4(-2.925,1.625) F5(-2.275,1.625) F6(-1.625,1.625) F7(-0.975,1.625) F8(-0.325,1.625) F9(0.325,1.625) F10(0.975,1.625) F11(1.625,1.625) F12(2.275,1.625) F13(2.925,1.625) F14(3.575,1.625) F15(4.225,1.625) F16(4.875,1.625) G1(-4.875,0.975) G2(-4.225,0.975) G3(-3.575,0.975) G4(-2.925,0.975) G5(-2.275,0.975) G6(-1.625,0.975) G7(-0.975,0.975) G8(-0.325,0.975) G9(0.325,0.975) G10(0.975,0.975) G11(1.625,0.975) G12(2.275,0.975) G13(2.925,0.975) G14(3.575,0.975) G15(4.225,0.975) G16(4.875,0.975) H1(-4.875,0.325) H2(-4.225,0.325) H3(-3.575,0.325) H4(-2.925,0.325) H5(-2.275,0.325) H6(-1.625,0.325) H7(-0.975,0.325) H8(-0.325,0.325) H9(0.325,0.325) H10(0.975,0.325) H11(1.625,0.325) H12(2.275,0.325) H13(2.925,0.325) H14(3.575,0.325) H15(4.225,0.325) H16(4.875,0.325) J1(-4.875,-0.325) J2(-4.225,-0.325) J3(-3.575,-0.325) J4(-2.925,-0.325) J5(-2.275,-0.325) J6(-1.625,-0.325) J7(-0.975,-0.325) J8(-0.325,-0.325) J9(0.325,-0.325) J10(0.975,-0.325) J11(1.625,-0.325) J12(2.275,-0.325) J13(2.925,-0.325) J14(3.575,-0.325) J15(4.225,-0.325) J16(4.875,-0.325) K1(-4.875,-0.975) K2(-4.225,-0.975) K3(-3.575,-0.975) K4(-2.925,-0.975) K5(-2.275,-0.975) K6(-1.625,-0.975) K7(-0.975,-0.975) K8(-0.325,-0.975) K9(0.325,-0.975) K10(0.975,-0.975) K11(1.625,-0.975) K12(2.275,-0.975) K13(2.925,-0.975) K14(3.575,-0.975) K15(4.225,-0.975) K16(4.875,-0.975) L1(-4.875,-1.625) L2(-4.225,-1.625) L3(-3.575,-1.625) L4(-2.925,-1.625) L5(-2.275,-1.625) L6(-1.625,-1.625) L7(-0.975,-1.625) L8(-0.325,-1.625) L9(0.325,-1.625) L10(0.975,-1.625) L11(1.625,-1.625) L12(2.275,-1.625) L13(2.925,-1.625) L14(3.575,-1.625) L15(4.225,-1.625) L16(4.875,-1.625) M1(-4.875,-2.275) M2(-4.225,-2.275) M3(-3.575,-2.275) M4(-2.925,-2.275) M5(-2.275,-2.275) M6(-1.625,-2.275) M7(-0.975,-2.275) M8(-0.325,-2.275) M9(0.325,-2.275) M10(0.975,-2.275) M11(1.625,-2.275) M12(2.275,-2.275) M13(2.925,-2.275) M14(3.575,-2.275) M15(4.225,-2.275) M16(4.875,-2.275) N1(-4.875,-2.925) N2(-4.225,-2.925) N3(-3.575,-2.925) N4(-2.925,-2.925) N5(-2.275,-2.925) N6(-1.625,-2.925) N7(-0.975,-2.925) N8(-0.325,-2.925) N9(0.325,-2.925) N10(0.975,-2.925) N11(1.625,-2.925) N12(2.275,-2.925) N13(2.925,-2.925) N14(3.575,-2.925) N15(4.225,-2.925) N16(4.875,-2.925) P1(-4.875,-3.575) P2(-4.225,-3.575) P3(-3.575,-3.575) P4(-2.925,-3.575) P5(-2.275,-3.575) P6(-1.625,-3.575) P7(-0.975,-3.575) P8(-0.325,-3.575) P9(0.325,-3.575) P10(0.975,-3.575) P11(1.625,-3.575) P12(2.275,-3.575) P13(2.925,-3.575) P14(3.575,-3.575) P15(4.225,-3.575) P16(4.875,-3.575) R1(-4.875,-4.225) R2(-4.225,-4.225) R3(-3.575,-4.225) R4(-2.925,-4.225) R5(-2.275,-4.225) R6(-1.625,-4.225) R7(-0.975,-4.225) R8(-0.325,-4.225) R9(0.325,-4.225) R10(0.975,-4.225) R11(1.625,-4.225) R12(2.275,-4.225) R13(2.925,-4.225) R14(3.575,-4.225) R15(4.225,-4.225) R16(4.875,-4.225) T1(-4.875,-4.875) T2(-4.225,-4.875) T3(-3.575,-4.875) T4(-2.925,-4.875) T5(-2.275,-4.875) T6(-1.625,-4.875) T7(-0.975,-4.875) T8(-0.325,-4.875) T9(0.325,-4.875) T10(0.975,-4.875) T11(1.625,-4.875) T12(2.275,-4.875) T13(2.925,-4.875) T14(3.575,-4.875) T15(4.225,-4.875) T16(4.875,-4.875)
Top Overlay:
  lines w0.203: -5.898,5.35 -5.898,5.898 -5.35,5.898 ; -5.898,5.35 -5.898,-5.898 5.898,-5.898 5.898,5.898 -5.35,5.898 ; -5.898,5.35 -5.35,5.898
Top Solder:
  drawing of 256 lines, arcs and shapes, not listed

## MQFP52 [mm]
pads (52):
  rect 1.8x0.4 smd: 1(-6.5,3.9) 2(-6.5,3.25) 3(-6.5,2.6) 4(-6.5,1.95) 5(-6.5,1.3) 6(-6.5,0.65) 7(-6.5,0) 8(-6.5,-0.65) 9(-6.5,-1.3) 10(-6.5,-1.95) 11(-6.5,-2.6) 12(-6.5,-3.25) 13(-6.5,-3.9) 27(6.5,-3.9) 28(6.5,-3.25) 29(6.5,-2.6) 30(6.5,-1.95) 31(6.5,-1.3) 32(6.5,-0.65) 33(6.5,0) 34(6.5,0.65) 35(6.5,1.3) 36(6.5,1.95) 37(6.5,2.6) 38(6.5,3.25) 39(6.5,3.9)
  rect 0.4x1.8 smd: 14(-3.9,-6.5) 15(-3.25,-6.5) 16(-2.6,-6.5) 17(-1.95,-6.5) 18(-1.3,-6.5) 19(-0.65,-6.5) 20(0,-6.5) 21(0.65,-6.5) 22(1.3,-6.5) 23(1.95,-6.5) 24(2.6,-6.5) 25(3.25,-6.5) 26(3.9,-6.5) 40(3.9,6.5) 41(3.25,6.5) 42(2.6,6.5) 43(1.95,6.5) 44(1.3,6.5) 45(0.65,6.5) 46(0,6.5) 47(-0.65,6.5) 48(-1.3,6.5) 49(-1.95,6.5) 50(-2.6,6.5) 51(-3.25,6.5) 52(-3.9,6.5)
Top Overlay:
  circle w0: c-3.8,3.8 r0.502
  lines w0.203: -4.95,-4.95 4.95,-4.95 4.95,4.95 -4.3,4.95 -4.95,4.3 -4.95,-4.95
Top Paste:
  rectangle: -7.35,3.725 -5.65,4.075
  rectangle: -7.35,3.075 -5.65,3.425
  rectangle: -7.35,2.425 -5.65,2.775
  rectangle: -7.35,1.775 -5.65,2.125
  rectangle: -7.35,1.125 -5.65,1.475
  rectangle: -7.35,0.475 -5.65,0.825
  rectangle: -7.35,-0.175 -5.65,0.175
  rectangle: -7.35,-0.825 -5.65,-0.475
  rectangle: -7.35,-1.475 -5.65,-1.125
  rectangle: -7.35,-2.125 -5.65,-1.775
  rectangle: -7.35,-2.775 -5.65,-2.425
  rectangle: -7.35,-3.425 -5.65,-3.075
  rectangle: -7.35,-4.075 -5.65,-3.725
  region: -3.725,-7.35 -3.725,-5.65 -4.075,-5.65 -4.075,-7.35
  region: -3.075,-7.35 -3.075,-5.65 -3.425,-5.65 -3.425,-7.35
  region: -2.425,-7.35 -2.425,-5.65 -2.775,-5.65 -2.775,-7.35
  region: -1.775,-7.35 -1.775,-5.65 -2.125,-5.65 -2.125,-7.35
  region: -1.125,-7.35 -1.125,-5.65 -1.475,-5.65 -1.475,-7.35
  region: -0.475,-7.35 -0.475,-5.65 -0.825,-5.65 -0.825,-7.35
  region: 0.175,-7.35 0.175,-5.65 -0.175,-5.65 -0.175,-7.35
  region: 0.825,-7.35 0.825,-5.65 0.475,-5.65 0.475,-7.35
  region: 1.475,-7.35 1.475,-5.65 1.125,-5.65 1.125,-7.35
  region: 2.125,-7.35 2.125,-5.65 1.775,-5.65 1.775,-7.35
  region: 2.775,-7.35 2.775,-5.65 2.425,-5.65 2.425,-7.35
  region: 3.425,-7.35 3.425,-5.65 3.075,-5.65 3.075,-7.35
  region: 4.075,-7.35 4.075,-5.65 3.725,-5.65 3.725,-7.35
  region: 7.35,-3.725 5.65,-3.725 5.65,-4.075 7.35,-4.075
  region: 7.35,-3.075 5.65,-3.075 5.65,-3.425 7.35,-3.425
  region: 7.35,-2.425 5.65,-2.425 5.65,-2.775 7.35,-2.775
  region: 7.35,-1.775 5.65,-1.775 5.65,-2.125 7.35,-2.125
  region: 7.35,-1.125 5.65,-1.125 5.65,-1.475 7.35,-1.475
  region: 7.35,-0.475 5.65,-0.475 5.65,-0.825 7.35,-0.825
  region: 7.35,0.175 5.65,0.175 5.65,-0.175 7.35,-0.175
  region: 7.35,0.825 5.65,0.825 5.65,0.475 7.35,0.475
  region: 7.35,1.475 5.65,1.475 5.65,1.125 7.35,1.125
  region: 7.35,2.125 5.65,2.125 5.65,1.775 7.35,1.775
  region: 7.35,2.775 5.65,2.775 5.65,2.425 7.35,2.425
  region: 7.35,3.425 5.65,3.425 5.65,3.075 7.35,3.075
  region: 7.35,4.075 5.65,4.075 5.65,3.725 7.35,3.725
  region: 3.725,7.35 3.725,5.65 4.075,5.65 4.075,7.35
  region: 3.075,7.35 3.075,5.65 3.425,5.65 3.425,7.35
  region: 2.425,7.35 2.425,5.65 2.775,5.65 2.775,7.35
  region: 1.775,7.35 1.775,5.65 2.125,5.65 2.125,7.35
  region: 1.125,7.35 1.125,5.65 1.475,5.65 1.475,7.35
  region: 0.475,7.35 0.475,5.65 0.825,5.65 0.825,7.35
  region: -0.175,7.35 -0.175,5.65 0.175,5.65 0.175,7.35
  region: -0.825,7.35 -0.825,5.65 -0.475,5.65 -0.475,7.35
  region: -1.475,7.35 -1.475,5.65 -1.125,5.65 -1.125,7.35
  region: -2.125,7.35 -2.125,5.65 -1.775,5.65 -1.775,7.35
  region: -2.775,7.35 -2.775,5.65 -2.425,5.65 -2.425,7.35
  region: -3.425,7.35 -3.425,5.65 -3.075,5.65 -3.075,7.35
  region: -4.075,7.35 -4.075,5.65 -3.725,5.65 -3.725,7.35
Top Solder:
  rectangle: -7.45,3.65 -5.55,4.15
  rectangle: -7.45,3 -5.55,3.5
  rectangle: -7.45,2.35 -5.55,2.85
  rectangle: -7.45,1.7 -5.55,2.2
  rectangle: -7.45,1.05 -5.55,1.55
  rectangle: -7.45,0.4 -5.55,0.9
  rectangle: -7.45,-0.25 -5.55,0.25
  rectangle: -7.45,-0.9 -5.55,-0.4
  rectangle: -7.45,-1.55 -5.55,-1.05
  rectangle: -7.45,-2.2 -5.55,-1.7
  rectangle: -7.45,-2.85 -5.55,-2.35
  rectangle: -7.45,-3.5 -5.55,-3
  rectangle: -7.45,-4.15 -5.55,-3.65
  region: -3.65,-7.45 -3.65,-5.55 -4.15,-5.55 -4.15,-7.45
  region: -3,-7.45 -3,-5.55 -3.5,-5.55 -3.5,-7.45
  region: -2.35,-7.45 -2.35,-5.55 -2.85,-5.55 -2.85,-7.45
  region: -1.7,-7.45 -1.7,-5.55 -2.2,-5.55 -2.2,-7.45
  region: -1.05,-7.45 -1.05,-5.55 -1.55,-5.55 -1.55,-7.45
  region: -0.4,-7.45 -0.4,-5.55 -0.9,-5.55 -0.9,-7.45
  region: 0.25,-7.45 0.25,-5.55 -0.25,-5.55 -0.25,-7.45
  region: 0.9,-7.45 0.9,-5.55 0.4,-5.55 0.4,-7.45
  region: 1.55,-7.45 1.55,-5.55 1.05,-5.55 1.05,-7.45
  region: 2.2,-7.45 2.2,-5.55 1.7,-5.55 1.7,-7.45
  region: 2.85,-7.45 2.85,-5.55 2.35,-5.55 2.35,-7.45
  region: 3.5,-7.45 3.5,-5.55 3,-5.55 3,-7.45
  region: 4.15,-7.45 4.15,-5.55 3.65,-5.55 3.65,-7.45
  region: 7.45,-3.65 5.55,-3.65 5.55,-4.15 7.45,-4.15
  region: 7.45,-3 5.55,-3 5.55,-3.5 7.45,-3.5
  region: 7.45,-2.35 5.55,-2.35 5.55,-2.85 7.45,-2.85
  region: 7.45,-1.7 5.55,-1.7 5.55,-2.2 7.45,-2.2
  region: 7.45,-1.05 5.55,-1.05 5.55,-1.55 7.45,-1.55
  region: 7.45,-0.4 5.55,-0.4 5.55,-0.9 7.45,-0.9
  region: 7.45,0.25 5.55,0.25 5.55,-0.25 7.45,-0.25
  region: 7.45,0.9 5.55,0.9 5.55,0.4 7.45,0.4
  region: 7.45,1.55 5.55,1.55 5.55,1.05 7.45,1.05
  region: 7.45,2.2 5.55,2.2 5.55,1.7 7.45,1.7
  region: 7.45,2.85 5.55,2.85 5.55,2.35 7.45,2.35
  region: 7.45,3.5 5.55,3.5 5.55,3 7.45,3
  region: 7.45,4.15 5.55,4.15 5.55,3.65 7.45,3.65
  region: 3.65,7.45 3.65,5.55 4.15,5.55 4.15,7.45
  region: 3,7.45 3,5.55 3.5,5.55 3.5,7.45
  region: 2.35,7.45 2.35,5.55 2.85,5.55 2.85,7.45
  region: 1.7,7.45 1.7,5.55 2.2,5.55 2.2,7.45
  region: 1.05,7.45 1.05,5.55 1.55,5.55 1.55,7.45
  region: 0.4,7.45 0.4,5.55 0.9,5.55 0.9,7.45
  region: -0.25,7.45 -0.25,5.55 0.25,5.55 0.25,7.45
  region: -0.9,7.45 -0.9,5.55 -0.4,5.55 -0.4,7.45
  region: -1.55,7.45 -1.55,5.55 -1.05,5.55 -1.05,7.45
  region: -2.2,7.45 -2.2,5.55 -1.7,5.55 -1.7,7.45
  region: -2.85,7.45 -2.85,5.55 -2.35,5.55 -2.35,7.45
  region: -3.5,7.45 -3.5,5.55 -3,5.55 -3,7.45
  region: -4.15,7.45 -4.15,5.55 -3.65,5.55 -3.65,7.45
Mechanical 16:
  rectangle: -7.1,3.75 -5.05,4.05
  rectangle: -7.1,3.1 -5.05,3.4
  rectangle: -7.1,2.45 -5.05,2.75
  rectangle: -7.1,1.8 -5.05,2.1
  rectangle: -7.1,1.15 -5.05,1.45
  rectangle: -7.1,0.5 -5.05,0.8
  rectangle: -7.1,-0.15 -5.05,0.15
  rectangle: -7.1,-0.8 -5.05,-0.5
  rectangle: -7.1,-1.45 -5.05,-1.15
  rectangle: -7.1,-2.1 -5.05,-1.8
  rectangle: -7.1,-2.75 -5.05,-2.45
  rectangle: -7.1,-3.4 -5.05,-3.1
  rectangle: -7.1,-4.05 -5.05,-3.75
  rectangle: -4.05,-7.1 -3.75,-5.05
  rectangle: -3.4,-7.1 -3.1,-5.05
  rectangle: -2.75,-7.1 -2.45,-5.05
  rectangle: -2.1,-7.1 -1.8,-5.05
  rectangle: -1.45,-7.1 -1.15,-5.05
  rectangle: -0.8,-7.1 -0.5,-5.05
  rectangle: -0.15,-7.1 0.15,-5.05
  rectangle: 0.5,-7.1 0.8,-5.05
  rectangle: 1.15,-7.1 1.45,-5.05
  rectangle: 1.8,-7.1 2.1,-5.05
  rectangle: 2.45,-7.1 2.75,-5.05
  rectangle: 3.1,-7.1 3.4,-5.05
  rectangle: 3.75,-7.1 4.05,-5.05
  rectangle: 5.05,-4.05 7.1,-3.75
  rectangle: 5.05,-3.4 7.1,-3.1
  rectangle: 5.05,-2.75 7.1,-2.45
  rectangle: 5.05,-2.1 7.1,-1.8
  rectangle: 5.05,-1.45 7.1,-1.15
  rectangle: 5.05,-0.8 7.1,-0.5
  rectangle: 5.05,-0.15 7.1,0.15
  rectangle: 5.05,0.5 7.1,0.8
  rectangle: 5.05,1.15 7.1,1.45
  rectangle: 5.05,1.8 7.1,2.1
  rectangle: 5.05,2.45 7.1,2.75
  rectangle: 5.05,3.1 7.1,3.4
  rectangle: 5.05,3.75 7.1,4.05
  rectangle: 3.75,5.05 4.05,7.1
  rectangle: 3.1,5.05 3.4,7.1
  rectangle: 2.45,5.05 2.75,7.1
  rectangle: 1.8,5.05 2.1,7.1
  rectangle: 1.15,5.05 1.45,7.1
  rectangle: 0.5,5.05 0.8,7.1
  rectangle: -0.15,5.05 0.15,7.1
  rectangle: -0.8,5.05 -0.5,7.1
  rectangle: -1.45,5.05 -1.15,7.1
  rectangle: -2.1,5.05 -1.8,7.1
  rectangle: -2.75,5.05 -2.45,7.1
  rectangle: -3.4,5.05 -3.1,7.1
  rectangle: -4.05,5.05 -3.75,7.1

## MSOP08 [mm]
pads (8):
  rect 0.4x1 smd: 1(-0.976,-2.263) 2(-0.326,-2.263) 3(0.324,-2.263) 4(0.974,-2.263) 5(0.974,2.262) 6(0.324,2.262) 7(-0.326,2.262) 8(-0.976,2.262)
Top Overlay:
  circle w0.051: c-1.046,-1.041 r0.245
  lines w0.152: -1.341,-1.626 1.299,-1.626 ccw(c1.299,-1.301) 1.624,-1.301 1.624,1.299 ccw(c1.299,1.299) 1.299,1.624 -1.301,1.624 ccw(c-1.301,1.299) -1.626,1.299 -1.626,-1.301 ccw(c-1.301,-1.301) -1.301,-1.626
Mechanical 16:
  rectangle: -1.098,1.65 -0.854,2.506
  rectangle: -0.448,1.65 -0.204,2.506
  rectangle: 0.202,1.65 0.446,2.506
  rectangle: 0.852,1.65 1.096,2.506
  rectangle: -1.098,-2.507 -0.854,-1.65
  rectangle: -0.448,-2.507 -0.204,-1.65
  rectangle: 0.202,-2.507 0.446,-1.65
  rectangle: 0.852,-2.507 1.096,-1.65

## MSOP10 [mm]
pads (10):
  rect 0.25x1 smd: 1(-1,-2.113) 2(-0.5,-2.113) 3(0,-2.113) 4(0.5,-2.113) 5(1,-2.113) 6(1,2.113) 7(0.5,2.113) 8(0,2.113) 9(-0.5,2.113) 10(-1,2.113)
Top Overlay:
  lines w0.203: -1.4,-1.4 1.4,-1.4 1.4,1.4 -1.4,1.4 -1.4,-1.4 ; -0.8,-1.1 cw(c-0.8,-0.8) -0.8,-0.5 -0.8,-1.1
Mechanical 16:
  rectangle: -1.124,-2.5 -0.875,-1.5
  rectangle: -0.624,-2.5 -0.374,-1.5
  rectangle: -0.124,-2.5 0.125,-1.5
  rectangle: 0.376,-2.5 0.626,-1.5
  rectangle: 0.876,-2.5 1.126,-1.5
  region: 1.124,2.5 0.875,2.5 0.875,1.5 1.124,1.5
  region: 0.624,2.5 0.374,2.5 0.374,1.5 0.624,1.5
  region: 0.124,2.5 -0.125,2.5 -0.125,1.5 0.124,1.5
  region: -0.376,2.5 -0.626,2.5 -0.626,1.5 -0.376,1.5
  region: -0.876,2.5 -1.126,2.5 -1.126,1.5 -0.876,1.5